# EAGLE library part MPU-6050 (library MPU-6050)
MPU-6050 Six-Axis (Gyro + Accelerometer) MEMS MotionTracking™ Devices
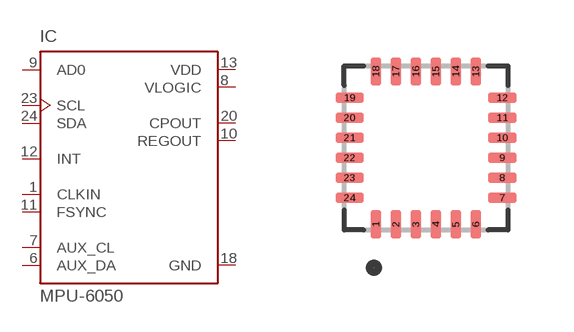
[diagram p0: symbol with the pads of QFN50P400X400X95-24N; footprint QFN50P400X400X95-24N]

Designator prefix IC

## MPU-6050 (AVAILABILITY: Unavailable; DESCRIPTION: 3-axis gyroscope, 3-axis accelerometer in a 4x4x0.9 housing; MF: TDK InvenSense; MP: MPU-6050; PACKAGE: QFN-24 InvenSense; PRICE: None)  [QFN50P400X400X95-24N]
1  CLKIN  in
6  AUX_DA
7  AUX_CL  out
8  VLOGIC  pwr
9  AD0  in
10  REGOUT  pas
11  FSYNC  in
12  INT  out
13  VDD  pwr
18  GND  pwr
20  CPOUT  pas
23  SCL  in
24  SDA

## Footprint QFN50P400X400X95-24N (pad centres in mm)
smd 0.26 x 0.71: 1 -1.25,-1.91; 2 -0.75,-1.91; 3 -0.25,-1.91; 4 0.25,-1.91; 5 0.75,-1.91; 6 1.25,-1.91; 13 1.25,1.91; 14 0.75,1.91; 15 0.25,1.91; 16 -0.25,1.91; 17 -0.75,1.91; 18 -1.25,1.91
smd 0.71 x 0.26: 7 1.91,-1.25; 8 1.91,-0.75; 9 1.91,-0.25; 10 1.91,0.25; 11 1.91,0.75; 12 1.91,1.25; 19 -1.91,1.25; 20 -1.91,0.75; 21 -1.91,0.25; 22 -1.91,-0.25; 23 -1.91,-0.75; 24 -1.91,-1.25